# Altium footprint library CN_SCKT2X10_RA.PcbLib: 1 footprints
Each footprint in its own frame and in the unit in brackets; x right, y up, seen from the top. Pads: shape width x height; smd on the part's side, far side on the other; paste and mask are expansions set on the pad; w line width, h text height; cw(c..) or ccw(c..) is an arc to the next point about the centre after c.
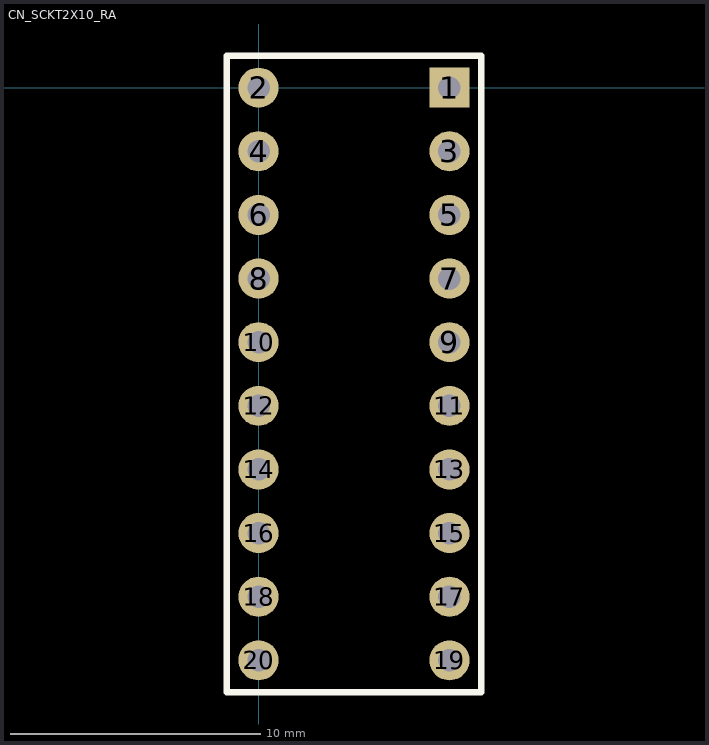
[diagram p0: the footprint, top view; thin cyan lines are the x and y axes]

## CN_SCKT2X10_RA [mm]
pads (20):
  rect 1.6x1.6 hole 0.9: 1(7.62,0)
  round 1.6 hole 0.9: 2(0,0) 3(7.62,-2.54) 4(0,-2.54) 5(7.62,-5.08) 6(0,-5.08) 7(7.62,-7.62) 8(0,-7.62) 9(7.62,-10.16) 10(0,-10.16) 11(7.62,-12.7) 12(0,-12.7) 13(7.62,-15.24) 14(0,-15.24) 15(7.62,-17.78) 16(0,-17.78) 17(7.62,-20.32) 18(0,-20.32) 19(7.62,-22.86) 20(0,-22.86)
Top Overlay:
  lines w0.254: -1.27,-24.13 8.89,-24.13 8.89,1.27 -1.27,1.27 -1.27,-24.13
3D body: height 5.9, standoff -3, extent -0.25,-24.33 7.87,1.27